# Altium integrated library TI Amplifiers and Linear Operational Amplifier High Speed.IntLib: 1100 symbols (part 23 of 44)
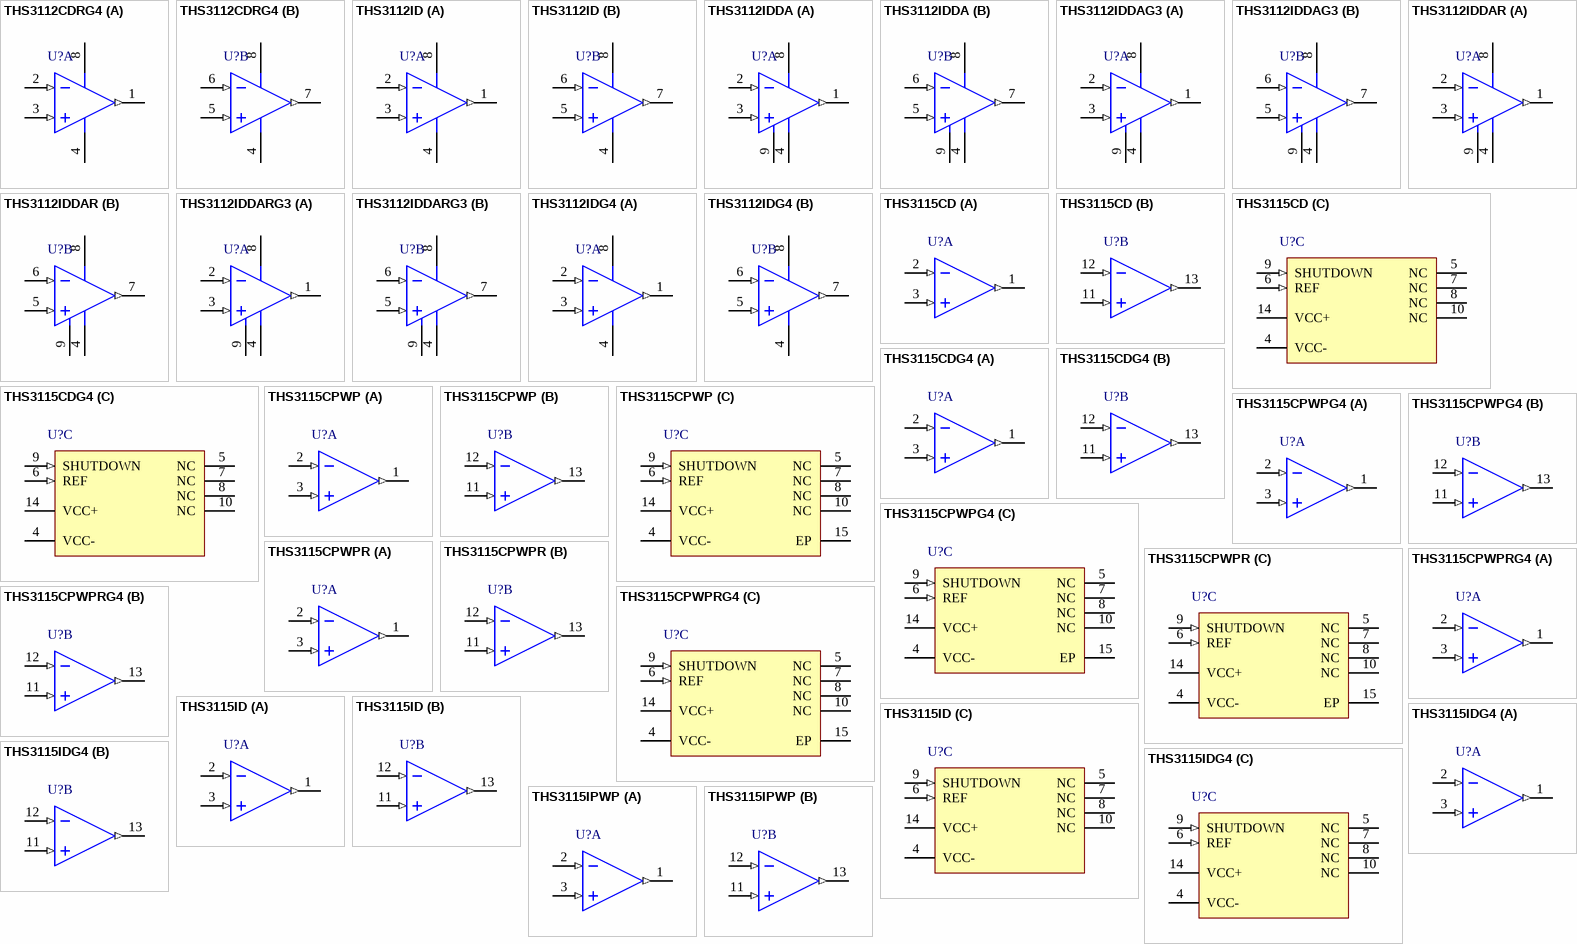
[diagram p73: symbols THS3112CDRG4 to THS3115IPWP]

## THS3112IDDARG3
designator U?
Dual, Low-Noise, High Output Current, 110 MHz Amplifier, 10 to 30 V, -40 to 85 degC, 8-pin SOP (DDA8), Green (RoHS & no Sb/Br); Manufacturer: Texas Instruments; PartNumber: THS3112IDDARG3; 2nd Harmonic(dBc): 62; 3rd Harmonic(dBc): 48; @ MHz: 10; Acl, min stable gain(V/V): 1; BW @ Acl(MHz): 110; Diff Gain(%): 0.01; Diff Phase(deg): 0.011; Iib(Max)(nA): 3000; Io(Typ)(mA): 270; Iq per channel(Max)(mA): 7.5; Number of Channels: 2; Settling Time (0.1%)(Typ)(ns): 50; Slew Rate(Typ)(V/us): 1300; Sub Family: High Output Current Amplifier (>=50mA), High Speed Amplifier (>=50MHz), High Supply Voltage Amplifier (>=30V); THD (Fc is 1 MHz)(Typ)(dB): -77; Vio(Max)(mV): 8; Vn at Flatband(Typ)(nV/rtHz): 2.8; Vs(Max)(V): 30; DatasheetVersion: SLOS385C; PackageVersion: 4202561/F, 12/2011; PackageReference: DDA8-3025X2335TP; PackageDescription: 8-Pin PowerPAD(TM) Plastic Small Outline, Body 4.9 x 3.9 mm, Pitch 1.27 mm; Supplier 1: Digi-Key; Supplier Part Number 1: THS3112IDDARG3-ND; Supplier 2: Mouser; Supplier Part Number 2: 595-THS3112IDDARG3; Eco-Plan: Green (RoHS & no Sb/Br); Vs(Min)(V): 10; Mounting Technology: Surface Mount; Code_JEDEC: MS-012; ComponentLink1Description: Manufacturer URL; ComponentLink1URL: http://www.ti.com/; ComponentLink2Description: Datasheet; ComponentLink2URL: http://www.ti.com/general/docs/lit/getliterature.tsp?genericPartNumber=THS3112&fileType=pdf; ComponentLink3Description: Package Specification; ComponentLink3URL: http://www.ti.com/litv/pdf/mpds092e
footprint TI-DDA8-3025X2335TP_N (SOP, 8-Leads, Body 4.9x3.9mm, Pitch 1.27mm, Thermal Pad 3.025x2.335mm, IPC Medium Density)
footprint TI-DDA8-3025X2335TP_L (SOP, 8-Leads, Body 4.9x3.9mm, Pitch 1.27mm, Thermal Pad 3.025x2.335mm, IPC High Density)
footprint TI-DDA8-3025X2335TP_M (SOP, 8-Leads, Body 4.9x3.9mm, Pitch 1.27mm, Thermal Pad 3.025x2.335mm, IPC Low Density)
pins on every part: 4 VCC- (power), 8 VCC+ (power), 9 EP
part A pins: 1 OUT1 (out), 2 IN1- (in), 3 IN1+ (in)
part B pins: 5 IN2+ (in), 6 IN2- (in), 7 OUT2 (out)

## THS3112IDG4
designator U?
Dual, Low-Noise, High Output Current, 110 MHz Amplifier, 10 to 30 V, -40 to 85 degC, 8-pin SOIC (D8), Green (RoHS & no Sb/Br); Manufacturer: Texas Instruments; PartNumber: THS3112IDG4; 2nd Harmonic(dBc): 62; 3rd Harmonic(dBc): 48; @ MHz: 10; Acl, min stable gain(V/V): 1; BW @ Acl(MHz): 110; Diff Gain(%): 0.01; Diff Phase(deg): 0.011; Iib(Max)(nA): 30000; Io(Typ)(mA): 270; Iq per channel(Max)(mA): 7.5; Number of Channels: 2; Settling Time (0.1%)(Typ)(ns): 63; Slew Rate(Typ)(V/us): 1300; Sub Family: High Output Current Amplifier (>=50mA), High Speed Amplifier (>=50MHz), High Supply Voltage Amplifier (>=30V); THD (Fc is 1 MHz)(Typ)(dB): -78; Vn at Flatband(Typ)(nV/rtHz): 2.2; Vs(Max)(V): 30; DatasheetVersion: SLOS385C; PackageVersion: 4040047-3/M, 06/2011; PackageReference: D8; PackageDescription: 8-Pin Plastic Small Outline, Body 4.9 x 3.9 mm, Pitch 1.27 mm; Supplier 1: Digi-Key; Supplier Part Number 1: THS3112IDG4-ND; Supplier 2: Mouser; Supplier Part Number 2: 595-THS3112IDG4; Eco-Plan: Green (RoHS & no Sb/Br); Vio(Max)(mV): 10; Vs(Min)(V): 10; Mounting Technology: Surface Mount; Code_JEDEC: MS-012; ComponentLink1Description: Manufacturer URL; ComponentLink1URL: http://www.ti.com/; ComponentLink2Description: Datasheet; ComponentLink2URL: http://www.ti.com/general/docs/lit/getliterature.tsp?genericPartNumber=THS3112&fileType=pdf; ComponentLink3Description: Package Specification; ComponentLink3URL: http://www.ti.com/litv/pdf/msoi002j
footprint TI-D8_N (SOIC, 8-Leads, Body 4.9x3.9mm, Pitch 1.27mm, IPC Medium Density)
footprint TI-D8_L (SOIC, 8-Leads, Body 4.9x3.9mm, Pitch 1.27mm, IPC High Density)
footprint TI-D8_M (SOIC, 8-Leads, Body 4.9x3.9mm, Pitch 1.27mm, IPC Low Density)
pins on every part: 4 VCC- (power), 8 VCC+ (power)
part A pins: 1 OUT1 (out), 2 IN1- (in), 3 IN1+ (in)
part B pins: 5 IN2+ (in), 6 IN2- (in), 7 OUT2 (out)

## THS3115CD
designator U?
Dual, Low-Noise, High Output Current, 110 MHz Amplifier with Shutdown, 10 to 30 V, 0 to 70 degC, 14-pin SOIC (D14), Green (RoHS & no Sb/Br); Manufacturer: Texas Instruments; PartNumber: THS3115CD; 2nd Harmonic(dBc): 62; 3rd Harmonic(dBc): 48; @ MHz: 10; Acl, min stable gain(V/V): 1; BW @ Acl(MHz): 110; Diff Gain(%): 0.01; Diff Phase(deg): 0.011; Iib(Max)(nA): 3000; Io(Typ)(mA): 270; Iq per channel(Max)(mA): 7.5; Number of Channels: 2; Settling Time (0.1%)(Typ)(ns): 50; Slew Rate(Typ)(V/us): 1300; Sub Family: High Output Current Amplifier (>=50mA), High Speed Amplifier (>=50MHz), High Supply Voltage Amplifier (>=30V); THD (Fc is 1 MHz)(Typ)(dB): -78; Vn at Flatband(Typ)(nV/rtHz): 2.2; Vs(Max)(V): 30; DatasheetVersion: SLOS385C; PackageVersion: 4040047-5/M, 06/2011; PackageReference: D14; PackageDescription: 14-Pin Plastic Small Outline, Body 8.65 x 3.9 mm, Pitch 1.27 mm; Supplier 1: Digi-Key; Supplier Part Number 1: 296-34199-5-ND; Supplier 2: Farnell; Supplier Part Number 2: 1755387; Supplier 3: Mouser; Supplier Part Number 3: 595-THS3115CD; Eco-Plan: Green (RoHS & no Sb/Br); Vio(Max)(mV): 10; Vs(Min)(V): 10; Mounting Technology: Surface Mount; Code_JEDEC: MS-012; ComponentLink1Description: Manufacturer URL; ComponentLink1URL: http://www.ti.com/; ComponentLink2Description: Datasheet; ComponentLink2URL: http://www.ti.com/general/docs/lit/getliterature.tsp?genericPartNumber=THS3115&fileType=pdf; ComponentLink3Description: Package Specification; ComponentLink3URL: http://www.ti.com/lit/ml/mpds177g/mpds177g.pdf
footprint TI-D14_N (SOIC, 14-Leads, Body 8.65x3.9mm, Pitch 1.27mm, IPC Medium Density)
footprint TI-D14_L (SOIC, 14-Leads, Body 8.65x3.9mm, Pitch 1.27mm, IPC High Density)
footprint TI-D14_M (SOIC, 14-Leads, Body 8.65x3.9mm, Pitch 1.27mm, IPC Low Density)
part A pins: 1 OUT1 (out), 2 IN1- (in), 3 IN1+ (in)
part B pins: 11 IN2+ (in), 12 IN2- (in), 13 OUT2 (out)
part C pins: 4 VCC- (power), 5 NC, 6 REF (in), 7 NC, 8 NC, 9 SHUTDOWN (in), 10 NC, 14 VCC+ (power)

## THS3115CDG4
designator U?
Dual, Low-Noise, High Output Current, 110 MHz Amplifier with Shutdown, 10 to 30 V, 0 to 70 degC, 14-pin SOIC (D14), Green (RoHS & no Sb/Br); Manufacturer: Texas Instruments; PartNumber: THS3115CDG4; 2nd Harmonic(dBc): 62; 3rd Harmonic(dBc): 48; @ MHz: 10; Acl, min stable gain(V/V): 1; BW @ Acl(MHz): 110; Diff Gain(%): 0.01; Diff Phase(deg): 0.011; Iib(Max)(nA): 3000; Io(Typ)(mA): 270; Iq per channel(Max)(mA): 7.5; Number of Channels: 2; Settling Time (0.1%)(Typ)(ns): 50; Slew Rate(Typ)(V/us): 1300; Sub Family: High Output Current Amplifier (>=50mA), High Speed Amplifier (>=50MHz), High Supply Voltage Amplifier (>=30V); THD (Fc is 1 MHz)(Typ)(dB): -78; Vn at Flatband(Typ)(nV/rtHz): 2.2; Vs(Max)(V): 30; DatasheetVersion: SLOS385C; PackageVersion: 4040047-5/M, 06/2011; PackageReference: D14; PackageDescription: 14-Pin Plastic Small Outline, Body 8.65 x 3.9 mm, Pitch 1.27 mm; Supplier 1: Digi-Key; Supplier Part Number 1: THS3115CDG4-ND; Supplier 2: Mouser; Supplier Part Number 2: 595-THS3115CDG4; Eco-Plan: Green (RoHS & no Sb/Br); Vio(Max)(mV): 10; Vs(Min)(V): 10; Mounting Technology: Surface Mount; Code_JEDEC: MS-012; ComponentLink1Description: Manufacturer URL; ComponentLink1URL: http://www.ti.com/; ComponentLink2Description: Datasheet; ComponentLink2URL: http://www.ti.com/general/docs/lit/getliterature.tsp?genericPartNumber=THS3115&fileType=pdf; ComponentLink3Description: Package Specification; ComponentLink3URL: http://www.ti.com/lit/ml/mpds177g/mpds177g.pdf
footprint TI-D14_N (SOIC, 14-Leads, Body 8.65x3.9mm, Pitch 1.27mm, IPC Medium Density)
footprint TI-D14_L (SOIC, 14-Leads, Body 8.65x3.9mm, Pitch 1.27mm, IPC High Density)
footprint TI-D14_M (SOIC, 14-Leads, Body 8.65x3.9mm, Pitch 1.27mm, IPC Low Density)
part A pins: 1 OUT1 (out), 2 IN1- (in), 3 IN1+ (in)
part B pins: 11 IN2+ (in), 12 IN2- (in), 13 OUT2 (out)
part C pins: 4 VCC- (power), 5 NC, 6 REF (in), 7 NC, 8 NC, 9 SHUTDOWN (in), 10 NC, 14 VCC+ (power)

## THS3115CPWP
designator U?
Dual, Low-Noise, High Output Current, 110 MHz Amplifier with Shutdown, 10 to 30 V, 0 to 70 degC, 14-pin SOP (PWP14), Green (RoHS & no Sb/Br); Manufacturer: Texas Instruments; PartNumber: THS3115CPWP; 2nd Harmonic(dBc): 62; 3rd Harmonic(dBc): 48; @ MHz: 10; Acl, min stable gain(V/V): 1; BW @ Acl(MHz): 110; Diff Gain(%): 0.01; Diff Phase(deg): 0.011; Iib(Max)(nA): 3000; Io(Typ)(mA): 270; Iq per channel(Max)(mA): 7.5; Number of Channels: 2; Settling Time (0.1%)(Typ)(ns): 50; Slew Rate(Typ)(V/us): 1300; Sub Family: High Output Current Amplifier (>=50mA), High Speed Amplifier (>=50MHz), High Supply Voltage Amplifier (>=30V); THD (Fc is 1 MHz)(Typ)(dB): -78; Vn at Flatband(Typ)(nV/rtHz): 2.2; Vs(Max)(V): 30; DatasheetVersion: SLOS385C; PackageVersion: 4073225-2/I, 05/2011; PackageReference: PWP14-1830X2055TP; PackageDescription: 14-Pin Plastic Small Outline, Body 4.4 x 5 mm, Pitch 0.65 mm; Supplier 1: Digi-Key; Supplier Part Number 1: THS3115CPWP-ND; Supplier 2: Mouser; Supplier Part Number 2: 595-THS3115CPWP; Eco-Plan: Green (RoHS & no Sb/Br); Vio(Max)(mV): 10; Vs(Min)(V): 10; Mounting Technology: Surface Mount; Code_JEDEC: MO-153; ComponentLink1Description: Manufacturer URL; ComponentLink1URL: http://www.ti.com/; ComponentLink2Description: Datasheet; ComponentLink2URL: http://www.ti.com/general/docs/lit/getliterature.tsp?genericPartNumber=THS3115&fileType=pdf; ComponentLink3Description: Package Specification; ComponentLink3URL: http://www.ti.com/litv/pdf/mpds373
footprint TI-PWP14-1830X2055TP_N (SOP, 14-Leads, Body 5x4.4mm, Pitch 0.65mm, Thermal Pad 1.830x2.055mm, IPC Medium Density)
footprint TI-PWP14-1830X2055TP_L (SOP, 14-Leads, Body 5x4.4mm, Pitch 0.65mm, Thermal Pad 1.830x2.055mm, IPC High Density)
footprint TI-PWP14-1830X2055TP_M (SOP, 14-Leads, Body 5x4.4mm, Pitch 0.65mm, Thermal Pad 1.830x2.055mm, IPC Low Density)
part A pins: 1 OUT1 (out), 2 IN1- (in), 3 IN1+ (in)
part B pins: 11 IN2+ (in), 12 IN2- (in), 13 OUT2 (out)
part C pins: 4 VCC- (power), 5 NC, 6 REF (in), 7 NC, 8 NC, 9 SHUTDOWN (in), 10 NC, 14 VCC+ (power), 15 EP

## THS3115CPWPG4
designator U?
Dual, Low-Noise, High Output Current, 110 MHz Amplifier with Shutdown, 10 to 30 V, 0 to 70 degC, 14-pin SOP (PWP14), Green (RoHS & no Sb/Br); Manufacturer: Texas Instruments; PartNumber: THS3115CPWPG4; 2nd Harmonic(dBc): 62; 3rd Harmonic(dBc): 48; @ MHz: 10; Acl, min stable gain(V/V): 1; BW @ Acl(MHz): 110; Diff Gain(%): 0.01; Diff Phase(deg): 0.011; Iib(Max)(nA): 3000; Io(Typ)(mA): 270; Iq per channel(Max)(mA): 7.5; Number of Channels: 2; Settling Time (0.1%)(Typ)(ns): 50; Slew Rate(Typ)(V/us): 1300; Sub Family: High Output Current Amplifier (>=50mA), High Speed Amplifier (>=50MHz), High Supply Voltage Amplifier (>=30V); THD (Fc is 1 MHz)(Typ)(dB): -78; Vn at Flatband(Typ)(nV/rtHz): 2.2; Vs(Max)(V): 30; DatasheetVersion: SLOS385C; PackageVersion: 4073225-2/I, 05/2011; PackageReference: PWP14-1830X2055TP; PackageDescription: 14-Pin Plastic Small Outline, Body 4.4 x 5 mm, Pitch 0.65 mm; Supplier 1: Digi-Key; Supplier Part Number 1: THS3115CPWPG4-ND; Supplier 2: Mouser; Supplier Part Number 2: 595-THS3115CPWPG4; Eco-Plan: Green (RoHS & no Sb/Br); Vio(Max)(mV): 10; Vs(Min)(V): 10; Mounting Technology: Surface Mount; Code_JEDEC: MO-153; ComponentLink1Description: Manufacturer URL; ComponentLink1URL: http://www.ti.com/; ComponentLink2Description: Datasheet; ComponentLink2URL: http://www.ti.com/general/docs/lit/getliterature.tsp?genericPartNumber=THS3115&fileType=pdf; ComponentLink3Description: Package Specification; ComponentLink3URL: http://www.ti.com/litv/pdf/mpds373
footprint TI-PWP14-1830X2055TP_N (SOP, 14-Leads, Body 5x4.4mm, Pitch 0.65mm, Thermal Pad 1.830x2.055mm, IPC Medium Density)
footprint TI-PWP14-1830X2055TP_L (SOP, 14-Leads, Body 5x4.4mm, Pitch 0.65mm, Thermal Pad 1.830x2.055mm, IPC High Density)
footprint TI-PWP14-1830X2055TP_M (SOP, 14-Leads, Body 5x4.4mm, Pitch 0.65mm, Thermal Pad 1.830x2.055mm, IPC Low Density)
part A pins: 1 OUT1 (out), 2 IN1- (in), 3 IN1+ (in)
part B pins: 11 IN2+ (in), 12 IN2- (in), 13 OUT2 (out)
part C pins: 4 VCC- (power), 5 NC, 6 REF (in), 7 NC, 8 NC, 9 SHUTDOWN (in), 10 NC, 14 VCC+ (power), 15 EP

## THS3115CPWPR
designator U?
Dual, Low-Noise, High Output Current, 110 MHz Amplifier with Shutdown, 10 to 30 V, 0 to 70 degC, 14-pin SOP (PWP14), Green (RoHS & no Sb/Br); Manufacturer: Texas Instruments; PartNumber: THS3115CPWPR; 2nd Harmonic(dBc): 62; 3rd Harmonic(dBc): 48; @ MHz: 10; Acl, min stable gain(V/V): 1; BW @ Acl(MHz): 110; Diff Gain(%): 0.01; Diff Phase(deg): 0.011; Iib(Max)(nA): 3000; Io(Typ)(mA): 270; Iq per channel(Max)(mA): 7.5; Number of Channels: 2; Settling Time (0.1%)(Typ)(ns): 50; Slew Rate(Typ)(V/us): 1300; Sub Family: High Output Current Amplifier (>=50mA), High Speed Amplifier (>=50MHz), High Supply Voltage Amplifier (>=30V); THD (Fc is 1 MHz)(Typ)(dB): -78; Vn at Flatband(Typ)(nV/rtHz): 2.2; Vs(Max)(V): 30; DatasheetVersion: SLOS385C; PackageVersion: 4073225-2/I, 05/2011; PackageReference: PWP14-1830X2055TP; PackageDescription: 14-Pin Plastic Small Outline, Body 4.4 x 5 mm, Pitch 0.65 mm; Supplier 1: Digi-Key; Supplier Part Number 1: THS3115CPWPR-ND; Supplier 2: Newark; Supplier Part Number 2: 76C6247; Supplier 3: Mouser; Supplier Part Number 3: 595-THS3115CPWPR; Eco-Plan: Green (RoHS & no Sb/Br); Vio(Max)(mV): 10; Vs(Min)(V): 10; Mounting Technology: Surface Mount; Code_JEDEC: MO-153; ComponentLink1Description: Manufacturer URL; ComponentLink1URL: http://www.ti.com/; ComponentLink2Description: Datasheet; ComponentLink2URL: http://www.ti.com/general/docs/lit/getliterature.tsp?genericPartNumber=THS3115&fileType=pdf; ComponentLink3Description: Package Specification; ComponentLink3URL: http://www.ti.com/litv/pdf/mpds373
footprint TI-PWP14-1830X2055TP_N (SOP, 14-Leads, Body 5x4.4mm, Pitch 0.65mm, Thermal Pad 1.830x2.055mm, IPC Medium Density)
footprint TI-PWP14-1830X2055TP_L (SOP, 14-Leads, Body 5x4.4mm, Pitch 0.65mm, Thermal Pad 1.830x2.055mm, IPC High Density)
footprint TI-PWP14-1830X2055TP_M (SOP, 14-Leads, Body 5x4.4mm, Pitch 0.65mm, Thermal Pad 1.830x2.055mm, IPC Low Density)
part A pins: 1 OUT1 (out), 2 IN1- (in), 3 IN1+ (in)
part B pins: 11 IN2+ (in), 12 IN2- (in), 13 OUT2 (out)
part C pins: 4 VCC- (power), 5 NC, 6 REF (in), 7 NC, 8 NC, 9 SHUTDOWN (in), 10 NC, 14 VCC+ (power), 15 EP

## THS3115CPWPRG4
designator U?
Dual, Low-Noise, High Output Current, 110 MHz Amplifier with Shutdown, 10 to 30 V, 0 to 70 degC, 14-pin SOP (PWP14), Green (RoHS & no Sb/Br); Manufacturer: Texas Instruments; PartNumber: THS3115CPWPRG4; 2nd Harmonic(dBc): 62; 3rd Harmonic(dBc): 48; @ MHz: 10; Acl, min stable gain(V/V): 1; BW @ Acl(MHz): 110; Diff Gain(%): 0.01; Diff Phase(deg): 0.011; Iib(Max)(nA): 3000; Io(Typ)(mA): 270; Iq per channel(Max)(mA): 7.5; Number of Channels: 2; Settling Time (0.1%)(Typ)(ns): 50; Slew Rate(Typ)(V/us): 1300; Sub Family: High Output Current Amplifier (>=50mA), High Speed Amplifier (>=50MHz), High Supply Voltage Amplifier (>=30V); THD (Fc is 1 MHz)(Typ)(dB): -78; Vn at Flatband(Typ)(nV/rtHz): 2.2; Vs(Max)(V): 30; DatasheetVersion: SLOS385C; PackageVersion: 4073225-2/I, 05/2011; PackageReference: PWP14-1830X2055TP; PackageDescription: 14-Pin Plastic Small Outline, Body 4.4 x 5 mm, Pitch 0.65 mm; Supplier 1: Digi-Key; Supplier Part Number 1: THS3115CPWPRG4-ND; Supplier 2: Mouser; Supplier Part Number 2: 595-THS3115CPWPRG4; Eco-Plan: Green (RoHS & no Sb/Br); Vio(Max)(mV): 10; Vs(Min)(V): 10; Mounting Technology: Surface Mount; Code_JEDEC: MO-153; ComponentLink1Description: Manufacturer URL; ComponentLink1URL: http://www.ti.com/; ComponentLink2Description: Datasheet; ComponentLink2URL: http://www.ti.com/general/docs/lit/getliterature.tsp?genericPartNumber=THS3115&fileType=pdf; ComponentLink3Description: Package Specification; ComponentLink3URL: http://www.ti.com/litv/pdf/mpds373
footprint TI-PWP14-1830X2055TP_N (SOP, 14-Leads, Body 5x4.4mm, Pitch 0.65mm, Thermal Pad 1.830x2.055mm, IPC Medium Density)
footprint TI-PWP14-1830X2055TP_L (SOP, 14-Leads, Body 5x4.4mm, Pitch 0.65mm, Thermal Pad 1.830x2.055mm, IPC High Density)
footprint TI-PWP14-1830X2055TP_M (SOP, 14-Leads, Body 5x4.4mm, Pitch 0.65mm, Thermal Pad 1.830x2.055mm, IPC Low Density)
part A pins: 1 OUT1 (out), 2 IN1- (in), 3 IN1+ (in)
part B pins: 11 IN2+ (in), 12 IN2- (in), 13 OUT2 (out)
part C pins: 4 VCC- (power), 5 NC, 6 REF (in), 7 NC, 8 NC, 9 SHUTDOWN (in), 10 NC, 14 VCC+ (power), 15 EP

## THS3115ID
designator U?
Dual, Low-Noise, High Output Current, 110 MHz Amplifier with Shutdown, 10 to 30 V, -40 to 85 degC, 14-pin SOIC (D14), Green (RoHS & no Sb/Br); Manufacturer: Texas Instruments; PartNumber: THS3115ID; 2nd Harmonic(dBc): 62; 3rd Harmonic(dBc): 48; @ MHz: 10; Acl, min stable gain(V/V): 1; BW @ Acl(MHz): 110; Diff Gain(%): 0.01; Diff Phase(deg): 0.011; Iib(Max)(nA): 3000; Io(Typ)(mA): 270; Iq per channel(Max)(mA): 7.5; Number of Channels: 2; Settling Time (0.1%)(Typ)(ns): 50; Slew Rate(Typ)(V/us): 1300; Sub Family: High Output Current Amplifier (>=50mA), High Speed Amplifier (>=50MHz), High Supply Voltage Amplifier (>=30V); THD (Fc is 1 MHz)(Typ)(dB): -77; Vio(Max)(mV): 8; Vn at Flatband(Typ)(nV/rtHz): 2.8; Vs(Max)(V): 30; DatasheetVersion: SLOS385C; PackageVersion: 4040047-5/M, 06/2011; PackageReference: D14; PackageDescription: 14-Pin Plastic Small Outline, Body 8.65 x 3.9 mm, Pitch 1.27 mm; Supplier 1: Digi-Key; Supplier Part Number 1: 296-13335-5-ND; Supplier 2: Mouser; Supplier Part Number 2: 595-THS3115ID; Eco-Plan: Green (RoHS & no Sb/Br); Vs(Min)(V): 10; Mounting Technology: Surface Mount; Code_JEDEC: MS-012; ComponentLink1Description: Manufacturer URL; ComponentLink1URL: http://www.ti.com/; ComponentLink2Description: Datasheet; ComponentLink2URL: http://www.ti.com/general/docs/lit/getliterature.tsp?genericPartNumber=THS3115&fileType=pdf; ComponentLink3Description: Package Specification; ComponentLink3URL: http://www.ti.com/lit/ml/mpds177g/mpds177g.pdf
footprint TI-D14_N (SOIC, 14-Leads, Body 8.65x3.9mm, Pitch 1.27mm, IPC Medium Density)
footprint TI-D14_L (SOIC, 14-Leads, Body 8.65x3.9mm, Pitch 1.27mm, IPC High Density)
footprint TI-D14_M (SOIC, 14-Leads, Body 8.65x3.9mm, Pitch 1.27mm, IPC Low Density)
part A pins: 1 OUT1 (out), 2 IN1- (in), 3 IN1+ (in)
part B pins: 11 IN2+ (in), 12 IN2- (in), 13 OUT2 (out)
part C pins: 4 VCC- (power), 5 NC, 6 REF (in), 7 NC, 8 NC, 9 SHUTDOWN (in), 10 NC, 14 VCC+ (power)

## THS3115IDG4
designator U?
Dual, Low-Noise, High Output Current, 110 MHz Amplifier with Shutdown, 10 to 30 V, -40 to 85 degC, 14-pin SOIC (D14), Green (RoHS & no Sb/Br); Manufacturer: Texas Instruments; PartNumber: THS3115IDG4; 2nd Harmonic(dBc): 62; 3rd Harmonic(dBc): 48; @ MHz: 10; Acl, min stable gain(V/V): 1; BW @ Acl(MHz): 110; Diff Gain(%): 0.01; Diff Phase(deg): 0.011; Iib(Max)(nA): 3000; Io(Typ)(mA): 270; Iq per channel(Max)(mA): 7.5; Number of Channels: 2; Settling Time (0.1%)(Typ)(ns): 50; Slew Rate(Typ)(V/us): 1300; Sub Family: High Output Current Amplifier (>=50mA), High Speed Amplifier (>=50MHz), High Supply Voltage Amplifier (>=30V); THD (Fc is 1 MHz)(Typ)(dB): -77; Vio(Max)(mV): 8; Vn at Flatband(Typ)(nV/rtHz): 2.8; Vs(Max)(V): 30; DatasheetVersion: SLOS385C; PackageVersion: 4040047-5/M, 06/2011; PackageReference: D14; PackageDescription: 14-Pin Plastic Small Outline, Body 8.65 x 3.9 mm, Pitch 1.27 mm; Supplier 1: Digi-Key; Supplier Part Number 1: THS3115IDG4-ND; Supplier 2: Mouser; Supplier Part Number 2: 595-THS3115IDG4; Eco-Plan: Green (RoHS & no Sb/Br); Vs(Min)(V): 10; Mounting Technology: Surface Mount; Code_JEDEC: MS-012; ComponentLink1Description: Manufacturer URL; ComponentLink1URL: http://www.ti.com/; ComponentLink2Description: Datasheet; ComponentLink2URL: http://www.ti.com/general/docs/lit/getliterature.tsp?genericPartNumber=THS3115&fileType=pdf; ComponentLink3Description: Package Specification; ComponentLink3URL: http://www.ti.com/lit/ml/mpds177g/mpds177g.pdf
footprint TI-D14_N (SOIC, 14-Leads, Body 8.65x3.9mm, Pitch 1.27mm, IPC Medium Density)
footprint TI-D14_L (SOIC, 14-Leads, Body 8.65x3.9mm, Pitch 1.27mm, IPC High Density)
footprint TI-D14_M (SOIC, 14-Leads, Body 8.65x3.9mm, Pitch 1.27mm, IPC Low Density)
part A pins: 1 OUT1 (out), 2 IN1- (in), 3 IN1+ (in)
part B pins: 11 IN2+ (in), 12 IN2- (in), 13 OUT2 (out)
part C pins: 4 VCC- (power), 5 NC, 6 REF (in), 7 NC, 8 NC, 9 SHUTDOWN (in), 10 NC, 14 VCC+ (power)

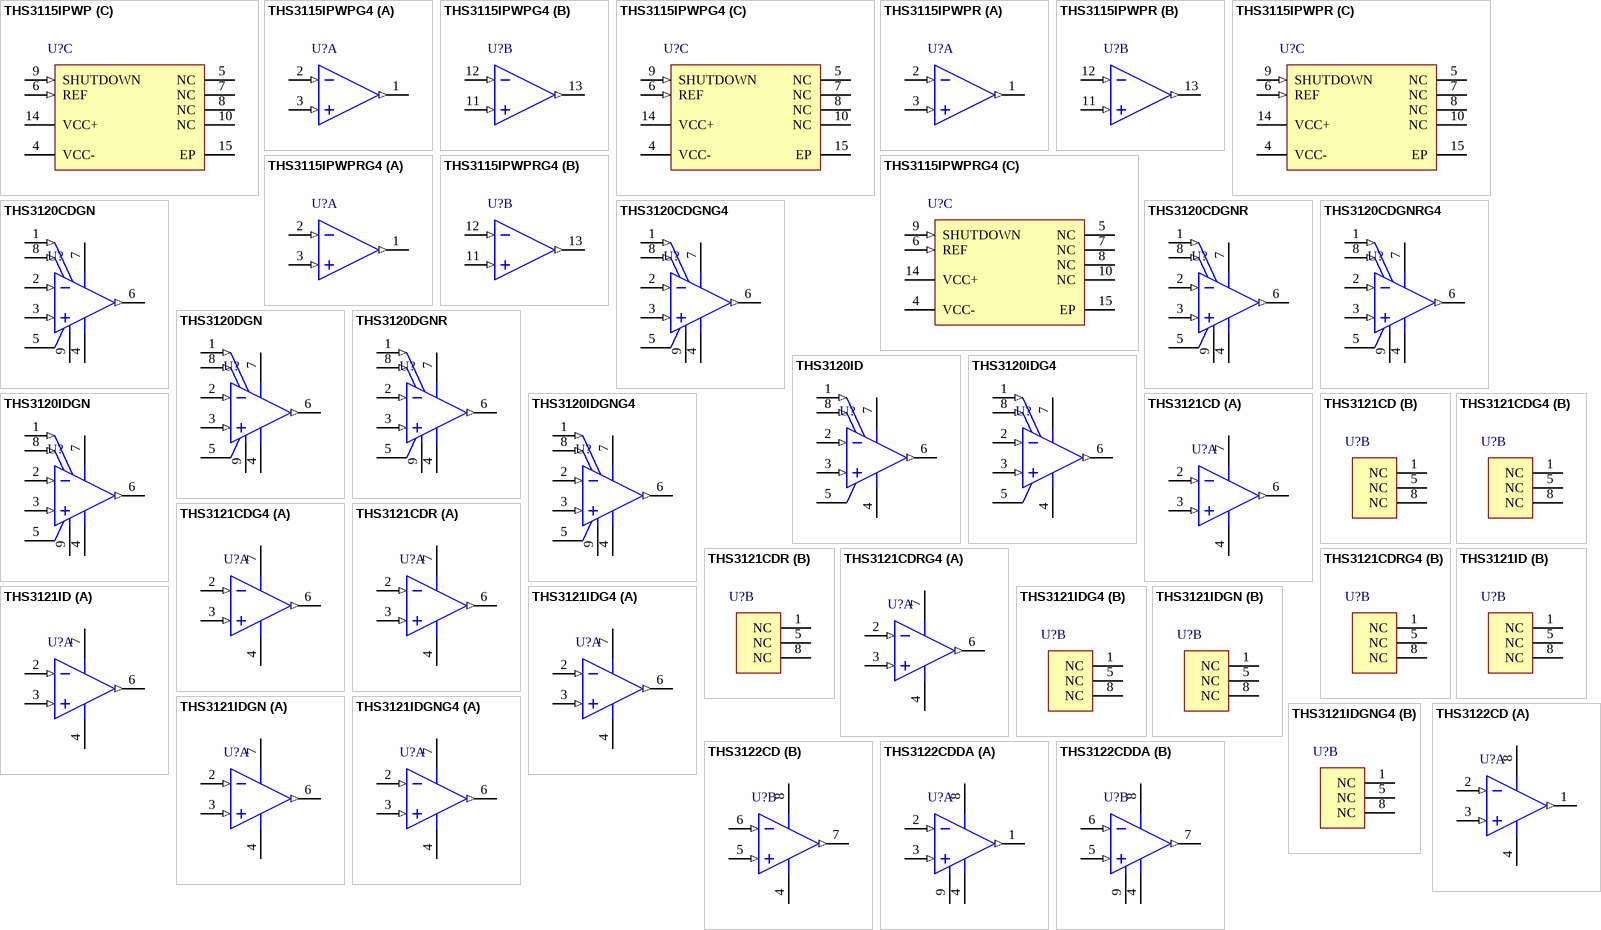
[diagram p28: symbols THS3115IPWP to THS3122CDDA]

## THS3115IPWP
designator U?
Dual, Low-Noise, High Output Current, 110 MHz Amplifier with Shutdown, 10 to 30 V, -40 to 85 degC, 14-pin SOP (PWP14), Green (RoHS & no Sb/Br); Manufacturer: Texas Instruments; PartNumber: THS3115IPWP; 2nd Harmonic(dBc): 62; 3rd Harmonic(dBc): 48; @ MHz: 10; Acl, min stable gain(V/V): 1; BW @ Acl(MHz): 110; Diff Gain(%): 0.01; Diff Phase(deg): 0.011; Iib(Max)(nA): 3000; Io(Typ)(mA): 270; Iq per channel(Max)(mA): 7.5; Number of Channels: 2; Settling Time (0.1%)(Typ)(ns): 50; Slew Rate(Typ)(V/us): 1300; Sub Family: High Output Current Amplifier (>=50mA), High Speed Amplifier (>=50MHz), High Supply Voltage Amplifier (>=30V); THD (Fc is 1 MHz)(Typ)(dB): -77; Vio(Max)(mV): 8; Vn at Flatband(Typ)(nV/rtHz): 2.8; Vs(Max)(V): 30; DatasheetVersion: SLOS385C; PackageVersion: 4073225-2/I, 05/2011; PackageReference: PWP14-1830X2055TP; PackageDescription: 14-Pin Plastic Small Outline, Body 4.4 x 5 mm, Pitch 0.65 mm; Supplier 1: Digi-Key; Supplier Part Number 1: 296-13336-5-ND; Supplier 2: Newark; Supplier Part Number 2: 76C6251; Supplier 3: Mouser; Supplier Part Number 3: 595-THS3115IPWP; Eco-Plan: Green (RoHS & no Sb/Br); Vs(Min)(V): 10; Mounting Technology: Surface Mount; Code_JEDEC: MO-153; ComponentLink1Description: Manufacturer URL; ComponentLink1URL: http://www.ti.com/; ComponentLink2Description: Datasheet; ComponentLink2URL: http://www.ti.com/general/docs/lit/getliterature.tsp?genericPartNumber=THS3115&fileType=pdf; ComponentLink3Description: Package Specification; ComponentLink3URL: http://www.ti.com/litv/pdf/mpds373
footprint TI-PWP14-1830X2055TP_N (SOP, 14-Leads, Body 5x4.4mm, Pitch 0.65mm, Thermal Pad 1.830x2.055mm, IPC Medium Density)
footprint TI-PWP14-1830X2055TP_L (SOP, 14-Leads, Body 5x4.4mm, Pitch 0.65mm, Thermal Pad 1.830x2.055mm, IPC High Density)
footprint TI-PWP14-1830X2055TP_M (SOP, 14-Leads, Body 5x4.4mm, Pitch 0.65mm, Thermal Pad 1.830x2.055mm, IPC Low Density)
part A pins: 1 OUT1 (out), 2 IN1- (in), 3 IN1+ (in)
part B pins: 11 IN2+ (in), 12 IN2- (in), 13 OUT2 (out)
part C pins: 4 VCC- (power), 5 NC, 6 REF (in), 7 NC, 8 NC, 9 SHUTDOWN (in), 10 NC, 14 VCC+ (power), 15 EP

## THS3115IPWPG4
designator U?
Dual, Low-Noise, High Output Current, 110 MHz Amplifier with Shutdown, 10 to 30 V, -40 to 85 degC, 14-pin SOP (PWP14), Green (RoHS & no Sb/Br); Manufacturer: Texas Instruments; PartNumber: THS3115IPWPG4; 2nd Harmonic(dBc): 62; 3rd Harmonic(dBc): 48; @ MHz: 10; Acl, min stable gain(V/V): 1; BW @ Acl(MHz): 110; Diff Gain(%): 0.01; Diff Phase(deg): 0.011; Iib(Max)(nA): 3000; Io(Typ)(mA): 270; Iq per channel(Max)(mA): 7.5; Number of Channels: 2; Settling Time (0.1%)(Typ)(ns): 50; Slew Rate(Typ)(V/us): 1300; Sub Family: High Output Current Amplifier (>=50mA), High Speed Amplifier (>=50MHz), High Supply Voltage Amplifier (>=30V); THD (Fc is 1 MHz)(Typ)(dB): -77; Vio(Max)(mV): 8; Vn at Flatband(Typ)(nV/rtHz): 2.8; Vs(Max)(V): 30; DatasheetVersion: SLOS385C; PackageVersion: 4073225-2/I, 05/2011; PackageReference: PWP14-1830X2055TP; PackageDescription: 14-Pin Plastic Small Outline, Body 4.4 x 5 mm, Pitch 0.65 mm; Supplier 1: Digi-Key; Supplier Part Number 1: THS3115IPWPG4-ND; Supplier 2: Mouser; Supplier Part Number 2: 595-THS3115IPWPG4; Eco-Plan: Green (RoHS & no Sb/Br); Vs(Min)(V): 10; Mounting Technology: Surface Mount; Code_JEDEC: MO-153; ComponentLink1Description: Manufacturer URL; ComponentLink1URL: http://www.ti.com/; ComponentLink2Description: Datasheet; ComponentLink2URL: http://www.ti.com/general/docs/lit/getliterature.tsp?genericPartNumber=THS3115&fileType=pdf; ComponentLink3Description: Package Specification; ComponentLink3URL: http://www.ti.com/litv/pdf/mpds373
footprint TI-PWP14-1830X2055TP_N (SOP, 14-Leads, Body 5x4.4mm, Pitch 0.65mm, Thermal Pad 1.830x2.055mm, IPC Medium Density)
footprint TI-PWP14-1830X2055TP_L (SOP, 14-Leads, Body 5x4.4mm, Pitch 0.65mm, Thermal Pad 1.830x2.055mm, IPC High Density)
footprint TI-PWP14-1830X2055TP_M (SOP, 14-Leads, Body 5x4.4mm, Pitch 0.65mm, Thermal Pad 1.830x2.055mm, IPC Low Density)
part A pins: 1 OUT1 (out), 2 IN1- (in), 3 IN1+ (in)
part B pins: 11 IN2+ (in), 12 IN2- (in), 13 OUT2 (out)
part C pins: 4 VCC- (power), 5 NC, 6 REF (in), 7 NC, 8 NC, 9 SHUTDOWN (in), 10 NC, 14 VCC+ (power), 15 EP

## THS3115IPWPR
designator U?
Dual, Low-Noise, High Output Current, 110 MHz Amplifier with Shutdown, 10 to 30 V, -40 to 85 degC, 14-pin SOP (PWP14), Green (RoHS & no Sb/Br); Manufacturer: Texas Instruments; PartNumber: THS3115IPWPR; 2nd Harmonic(dBc): 62; 3rd Harmonic(dBc): 48; @ MHz: 10; Acl, min stable gain(V/V): 1; BW @ Acl(MHz): 110; Diff Gain(%): 0.01; Diff Phase(deg): 0.011; Iib(Max)(nA): 3000; Io(Typ)(mA): 270; Iq per channel(Max)(mA): 7.5; Number of Channels: 2; Settling Time (0.1%)(Typ)(ns): 50; Slew Rate(Typ)(V/us): 1300; Sub Family: High Output Current Amplifier (>=50mA), High Speed Amplifier (>=50MHz), High Supply Voltage Amplifier (>=30V); THD (Fc is 1 MHz)(Typ)(dB): -77; Vio(Max)(mV): 8; Vn at Flatband(Typ)(nV/rtHz): 2.8; Vs(Max)(V): 30; DatasheetVersion: SLOS385C; PackageVersion: 4073225-2/I, 05/2011; PackageReference: PWP14-1830X2055TP; PackageDescription: 14-Pin Plastic Small Outline, Body 4.4 x 5 mm, Pitch 0.65 mm; Supplier 1: Digi-Key; Supplier Part Number 1: THS3115IPWPR-ND; Supplier 2: Mouser; Supplier Part Number 2: 595-THS3115IPWPR; Eco-Plan: Green (RoHS & no Sb/Br); Vs(Min)(V): 10; Mounting Technology: Surface Mount; Code_JEDEC: MO-153; ComponentLink1Description: Manufacturer URL; ComponentLink1URL: http://www.ti.com/; ComponentLink2Description: Datasheet; ComponentLink2URL: http://www.ti.com/general/docs/lit/getliterature.tsp?genericPartNumber=THS3115&fileType=pdf; ComponentLink3Description: Package Specification; ComponentLink3URL: http://www.ti.com/litv/pdf/mpds373
footprint TI-PWP14-1830X2055TP_N (SOP, 14-Leads, Body 5x4.4mm, Pitch 0.65mm, Thermal Pad 1.830x2.055mm, IPC Medium Density)
footprint TI-PWP14-1830X2055TP_L (SOP, 14-Leads, Body 5x4.4mm, Pitch 0.65mm, Thermal Pad 1.830x2.055mm, IPC High Density)
footprint TI-PWP14-1830X2055TP_M (SOP, 14-Leads, Body 5x4.4mm, Pitch 0.65mm, Thermal Pad 1.830x2.055mm, IPC Low Density)
part A pins: 1 OUT1 (out), 2 IN1- (in), 3 IN1+ (in)
part B pins: 11 IN2+ (in), 12 IN2- (in), 13 OUT2 (out)
part C pins: 4 VCC- (power), 5 NC, 6 REF (in), 7 NC, 8 NC, 9 SHUTDOWN (in), 10 NC, 14 VCC+ (power), 15 EP

## THS3115IPWPRG4
designator U?
Dual, Low-Noise, High Output Current, 110 MHz Amplifier with Shutdown, 10 to 30 V, -40 to 85 degC, 14-pin SOP (PWP14), Green (RoHS & no Sb/Br); Manufacturer: Texas Instruments; PartNumber: THS3115IPWPRG4; 2nd Harmonic(dBc): 62; 3rd Harmonic(dBc): 48; @ MHz: 10; Acl, min stable gain(V/V): 1; BW @ Acl(MHz): 110; Diff Gain(%): 0.01; Diff Phase(deg): 0.011; Iib(Max)(nA): 3000; Io(Typ)(mA): 270; Iq per channel(Max)(mA): 7.5; Number of Channels: 2; Settling Time (0.1%)(Typ)(ns): 50; Slew Rate(Typ)(V/us): 1300; Sub Family: High Output Current Amplifier (>=50mA), High Speed Amplifier (>=50MHz), High Supply Voltage Amplifier (>=30V); THD (Fc is 1 MHz)(Typ)(dB): -78; Vn at Flatband(Typ)(nV/rtHz): 2.2; Vs(Max)(V): 30; DatasheetVersion: SLOS385C; PackageVersion: 4073225-2/I, 05/2011; PackageReference: PWP14-1830X2055TP; PackageDescription: 14-Pin Plastic Small Outline, Body 4.4 x 5 mm, Pitch 0.65 mm; Supplier 1: Digi-Key; Supplier Part Number 1: THS3115IPWPRG4-ND; Supplier 2: Mouser; Supplier Part Number 2: 595-THS3115IPWPRG4; Eco-Plan: Green (RoHS & no Sb/Br); Vio(Max)(mV): 10; Vs(Min)(V): 10; Mounting Technology: Surface Mount; Code_JEDEC: MO-153; ComponentLink1Description: Manufacturer URL; ComponentLink1URL: http://www.ti.com/; ComponentLink2Description: Datasheet; ComponentLink2URL: http://www.ti.com/general/docs/lit/getliterature.tsp?genericPartNumber=THS3115&fileType=pdf; ComponentLink3Description: Package Specification; ComponentLink3URL: http://www.ti.com/litv/pdf/mpds373
footprint TI-PWP14-1830X2055TP_N (SOP, 14-Leads, Body 5x4.4mm, Pitch 0.65mm, Thermal Pad 1.830x2.055mm, IPC Medium Density)
footprint TI-PWP14-1830X2055TP_L (SOP, 14-Leads, Body 5x4.4mm, Pitch 0.65mm, Thermal Pad 1.830x2.055mm, IPC High Density)
footprint TI-PWP14-1830X2055TP_M (SOP, 14-Leads, Body 5x4.4mm, Pitch 0.65mm, Thermal Pad 1.830x2.055mm, IPC Low Density)
part A pins: 1 OUT1 (out), 2 IN1- (in), 3 IN1+ (in)
part B pins: 11 IN2+ (in), 12 IN2- (in), 13 OUT2 (out)
part C pins: 4 VCC- (power), 5 NC, 6 REF (in), 7 NC, 8 NC, 9 SHUTDOWN (in), 10 NC, 14 VCC+ (power), 15 EP

## THS3120CDGN
designator U?
Single, Low Noise, High Output Drive, 475 mA Current-Feedback Amplifier with Power-Down, 10 to 30 V, -40 to 85 degC, 8-pin SOP (DGN8), Green (RoHS & no Sb/Br); Manufacturer: Texas Instruments; PartNumber: THS3120CDGN; 2nd Harmonic(dBc): 51; 3rd Harmonic(dBc): 50; @ MHz: 10; Acl, min stable gain(V/V): 1; BW @ Acl(MHz): 130; Diff Gain(%): 0.007; Diff Phase(deg): 0.018; Iib(Max)(nA): 20000; Io(Typ)(mA): 475; Iq per channel(Max)(mA): 11; Slew Rate(Typ)(V/us): 1700; Sub Family: High Output Current Amplifier (>=50mA), High Speed Amplifier (>=50MHz), High Supply Voltage Amplifier (>=30V); THD (Fc is 1 MHz)(Typ)(dB): -78; Vio(Max)(mV): 8; Vn at Flatband(Typ)(nV/rtHz): 2.5; Vs(Max)(V): 30; DatasheetVersion: SLOS420E; PackageVersion: 4073271/F, 05/2011; PackageReference: DGN8-1760X1425TP; PackageDescription: 8-pin Plastic Small Outline, Body 3 x 3 mm, Pitch 0.65 mm; Supplier 1: Digi-Key; Supplier Part Number 1: THS3120CDGN-ND; Supplier 2: Mouser; Supplier Part Number 2: 595-THS3120CDGN; Eco-Plan: Green (RoHS & no Sb/Br); Number of Channels: 1; Settling Time (0.1%)(Typ)(ns): 11; Vs(Min)(V): 10; Mounting Technology: Surface Mount; Code_JEDEC: MO-187; ComponentLink1Description: Manufacturer URL; ComponentLink1URL: http://www.ti.com/; ComponentLink2Description: Datasheet; ComponentLink2URL: http://www.ti.com/general/docs/lit/getliterature.tsp?genericPartNumber=THS3120&fileType=pdf; ComponentLink3Description: Package Specification; ComponentLink3URL: http://www.ti.com/litv/pdf/mpds046e
footprint TI-DGN8-1760X1425TP_N (SOP, 8-Leads, Body 3x3mm, Pitch 0.65mm, Thermal Pad 1.76x1.425mm, IPC Medium Density)
footprint TI-DGN8-1760X1425TP_L (SOP, 8-Leads, Body 3x3mm, Pitch 0.65mm, Thermal Pad 1.76x1.425mm, IPC High Density)
footprint TI-DGN8-1760X1425TP_M (SOP, 8-Leads, Body 3x3mm, Pitch 0.65mm, Thermal Pad 1.76 x 1.425 mm, IPC Low Density)
pins: 1 REF (in), 2 VIN- (in), 3 VIN+ (in), 4 VS- (power), 5 NC, 6 VOUT (out), 7 VS+ (power), 8 PD (in), 9 EP

## THS3120CDGNG4
designator U?
Single, Low Noise, High Output Drive, 475 mA Current-Feedback Amplifier with Power-Down, 10 to 30 V, -40 to 85 degC, 8-pin SOP (DGN8), Green (RoHS & no Sb/Br); Manufacturer: Texas Instruments; PartNumber: THS3120CDGNG4; 2nd Harmonic(dBc): 51; 3rd Harmonic(dBc): 50; @ MHz: 10; Acl, min stable gain(V/V): 1; BW @ Acl(MHz): 130; Diff Gain(%): 0.007; Diff Phase(deg): 0.018; Iib(Max)(nA): 20000; Io(Typ)(mA): 475; Iq per channel(Max)(mA): 11; Slew Rate(Typ)(V/us): 1700; Sub Family: High Output Current Amplifier (>=50mA), High Speed Amplifier (>=50MHz), High Supply Voltage Amplifier (>=30V); THD (Fc is 1 MHz)(Typ)(dB): -78; Vio(Max)(mV): 8; Vn at Flatband(Typ)(nV/rtHz): 2.5; Vs(Max)(V): 30; DatasheetVersion: SLOS420E; PackageVersion: 4073271/F, 05/2011; PackageReference: DGN8-1760X1425TP; PackageDescription: 8-pin Plastic Small Outline, Body 3 x 3 mm, Pitch 0.65 mm; Supplier 1: Digi-Key; Supplier Part Number 1: THS3120CDGNG4-ND; Supplier 2: Mouser; Supplier Part Number 2: 595-THS3120CDGNG4; Eco-Plan: Green (RoHS & no Sb/Br); Number of Channels: 1; Settling Time (0.1%)(Typ)(ns): 11; Vs(Min)(V): 10; Mounting Technology: Surface Mount; Code_JEDEC: MO-187; ComponentLink1Description: Manufacturer URL; ComponentLink1URL: http://www.ti.com/; ComponentLink2Description: Datasheet; ComponentLink2URL: http://www.ti.com/general/docs/lit/getliterature.tsp?genericPartNumber=THS3120&fileType=pdf; ComponentLink3Description: Package Specification; ComponentLink3URL: http://www.ti.com/litv/pdf/mpds046e
footprint TI-DGN8-1760X1425TP_N (SOP, 8-Leads, Body 3x3mm, Pitch 0.65mm, Thermal Pad 1.76x1.425mm, IPC Medium Density)
footprint TI-DGN8-1760X1425TP_L (SOP, 8-Leads, Body 3x3mm, Pitch 0.65mm, Thermal Pad 1.76x1.425mm, IPC High Density)
footprint TI-DGN8-1760X1425TP_M (SOP, 8-Leads, Body 3x3mm, Pitch 0.65mm, Thermal Pad 1.76 x 1.425 mm, IPC Low Density)
pins: 1 REF (in), 2 VIN- (in), 3 VIN+ (in), 4 VS- (power), 5 NC, 6 VOUT (out), 7 VS+ (power), 8 PD (in), 9 EP

## THS3120CDGNR
designator U?
Single, Low Noise, High Output Drive, 475 mA Current-Feedback Amplifier with Power-Down, 10 to 30 V, -40 to 85 degC, 8-pin SOP (DGN8), Green (RoHS & no Sb/Br); Manufacturer: Texas Instruments; PartNumber: THS3120CDGNR; 2nd Harmonic(dBc): 51; 3rd Harmonic(dBc): 50; @ MHz: 10; Acl, min stable gain(V/V): 1; BW @ Acl(MHz): 130; Diff Gain(%): 0.007; Diff Phase(deg): 0.018; Iib(Max)(nA): 20000; Io(Typ)(mA): 475; Iq per channel(Max)(mA): 11; Slew Rate(Typ)(V/us): 1700; Sub Family: High Output Current Amplifier (>=50mA), High Speed Amplifier (>=50MHz), High Supply Voltage Amplifier (>=30V); THD (Fc is 1 MHz)(Typ)(dB): -78; Vio(Max)(mV): 8; Vn at Flatband(Typ)(nV/rtHz): 2.5; Vs(Max)(V): 30; DatasheetVersion: SLOS420E; PackageVersion: 4073271/F, 05/2011; PackageReference: DGN8-1760X1425TP; PackageDescription: 8-pin Plastic Small Outline, Body 3 x 3 mm, Pitch 0.65 mm; Supplier 1: Digi-Key; Supplier Part Number 1: THS3120CDGNR-ND; Supplier 2: Mouser; Supplier Part Number 2: 595-THS3120CDGNR; Eco-Plan: Green (RoHS & no Sb/Br); Number of Channels: 1; Settling Time (0.1%)(Typ)(ns): 11; Vs(Min)(V): 10; Mounting Technology: Surface Mount; Code_JEDEC: MO-187; ComponentLink1Description: Manufacturer URL; ComponentLink1URL: http://www.ti.com/; ComponentLink2Description: Datasheet; ComponentLink2URL: http://www.ti.com/general/docs/lit/getliterature.tsp?genericPartNumber=THS3120&fileType=pdf; ComponentLink3Description: Package Specification; ComponentLink3URL: http://www.ti.com/litv/pdf/mpds046e
footprint TI-DGN8-1760X1425TP_N (SOP, 8-Leads, Body 3x3mm, Pitch 0.65mm, Thermal Pad 1.76x1.425mm, IPC Medium Density)
footprint TI-DGN8-1760X1425TP_L (SOP, 8-Leads, Body 3x3mm, Pitch 0.65mm, Thermal Pad 1.76x1.425mm, IPC High Density)
footprint TI-DGN8-1760X1425TP_M (SOP, 8-Leads, Body 3x3mm, Pitch 0.65mm, Thermal Pad 1.76 x 1.425 mm, IPC Low Density)
pins: 1 REF (in), 2 VIN- (in), 3 VIN+ (in), 4 VS- (power), 5 NC, 6 VOUT (out), 7 VS+ (power), 8 PD (in), 9 EP

## THS3120CDGNRG4
designator U?
Single, Low Noise, High Output Drive, 475 mA Current-Feedback Amplifier with Power-Down, 10 to 30 V, -40 to 85 degC, 8-pin SOP (DGN8), Green (RoHS & no Sb/Br); Manufacturer: Texas Instruments; PartNumber: THS3120CDGNRG4; 2nd Harmonic(dBc): 51; 3rd Harmonic(dBc): 50; @ MHz: 10; Acl, min stable gain(V/V): 1; BW @ Acl(MHz): 130; Diff Gain(%): 0.007; Diff Phase(deg): 0.018; Iib(Max)(nA): 20000; Io(Typ)(mA): 475; Iq per channel(Max)(mA): 11; Slew Rate(Typ)(V/us): 1700; Sub Family: High Output Current Amplifier (>=50mA), High Speed Amplifier (>=50MHz), High Supply Voltage Amplifier (>=30V); THD (Fc is 1 MHz)(Typ)(dB): -78; Vio(Max)(mV): 8; Vn at Flatband(Typ)(nV/rtHz): 2.5; Vs(Max)(V): 30; DatasheetVersion: SLOS420E; PackageVersion: 4073271/F, 05/2011; PackageReference: DGN8-1760X1425TP; PackageDescription: 8-pin Plastic Small Outline, Body 3 x 3 mm, Pitch 0.65 mm; Supplier 1: Digi-Key; Supplier Part Number 1: THS3120CDGNRG4-ND; Supplier 2: Mouser; Supplier Part Number 2: 595-THS3120CDGNRG4; Eco-Plan: Green (RoHS & no Sb/Br); Number of Channels: 1; Settling Time (0.1%)(Typ)(ns): 11; Vs(Min)(V): 10; Mounting Technology: Surface Mount; Code_JEDEC: MO-187; ComponentLink1Description: Manufacturer URL; ComponentLink1URL: http://www.ti.com/; ComponentLink2Description: Datasheet; ComponentLink2URL: http://www.ti.com/general/docs/lit/getliterature.tsp?genericPartNumber=THS3120&fileType=pdf; ComponentLink3Description: Package Specification; ComponentLink3URL: http://www.ti.com/litv/pdf/mpds046e
footprint TI-DGN8-1760X1425TP_N (SOP, 8-Leads, Body 3x3mm, Pitch 0.65mm, Thermal Pad 1.76x1.425mm, IPC Medium Density)
footprint TI-DGN8-1760X1425TP_L (SOP, 8-Leads, Body 3x3mm, Pitch 0.65mm, Thermal Pad 1.76x1.425mm, IPC High Density)
footprint TI-DGN8-1760X1425TP_M (SOP, 8-Leads, Body 3x3mm, Pitch 0.65mm, Thermal Pad 1.76 x 1.425 mm, IPC Low Density)
pins: 1 REF (in), 2 VIN- (in), 3 VIN+ (in), 4 VS- (power), 5 NC, 6 VOUT (out), 7 VS+ (power), 8 PD (in), 9 EP

## THS3120DGN
designator U?
Single, Low Noise, High Output Drive, 475 mA Current-Feedback Amplifier with Power-Down, 10 to 30 V, -40 to 85 degC, 8-pin SOP (DGN8); Manufacturer: Texas Instruments; PartNumber: THS3120DGN; 2nd Harmonic(dBc): 51; 3rd Harmonic(dBc): 50; @ MHz: 10; Acl, min stable gain(V/V): 1; BW @ Acl(MHz): 130; Diff Gain(%): 0.007; Diff Phase(deg): 0.018; Iib(Max)(nA): 20000; Io(Typ)(mA): 475; Iq per channel(Max)(mA): 11; Slew Rate(Typ)(V/us): 1700; Sub Family: High Output Current Amplifier (>=50mA), High Speed Amplifier (>=50MHz), High Supply Voltage Amplifier (>=30V); THD (Fc is 1 MHz)(Typ)(dB): -78; Vio(Max)(mV): 8; Vn at Flatband(Typ)(nV/rtHz): 2.5; Vs(Max)(V): 30; DatasheetVersion: SLOS420E; PackageVersion: 4073271/F, 05/2011; PackageReference: DGN8-1760X1425TP; PackageDescription: 8-pin Plastic Small Outline, Body 3 x 3 mm, Pitch 0.65 mm; Supplier 1: Mouser; Supplier Part Number 1: N/A; Number of Channels: 1; Settling Time (0.1%)(Typ)(ns): 11; Vs(Min)(V): 10; Mounting Technology: Surface Mount; Code_JEDEC: MO-187; ComponentLink1Description: Manufacturer URL; ComponentLink1URL: http://www.ti.com/; ComponentLink2Description: Datasheet; ComponentLink2URL: http://www.ti.com/general/docs/lit/getliterature.tsp?genericPartNumber=THS3120&fileType=pdf; ComponentLink3Description: Package Specification; ComponentLink3URL: http://www.ti.com/litv/pdf/mpds046e
footprint TI-DGN8-1760X1425TP_N (SOP, 8-Leads, Body 3x3mm, Pitch 0.65mm, Thermal Pad 1.76x1.425mm, IPC Medium Density)
footprint TI-DGN8-1760X1425TP_L (SOP, 8-Leads, Body 3x3mm, Pitch 0.65mm, Thermal Pad 1.76x1.425mm, IPC High Density)
footprint TI-DGN8-1760X1425TP_M (SOP, 8-Leads, Body 3x3mm, Pitch 0.65mm, Thermal Pad 1.76 x 1.425 mm, IPC Low Density)
pins: 1 REF (in), 2 VIN- (in), 3 VIN+ (in), 4 VS- (power), 5 NC, 6 VOUT (out), 7 VS+ (power), 8 PD (in), 9 EP

## THS3120DGNR
designator U?
Single, Low Noise, High Output Drive, 475 mA Current-Feedback Amplifier with Power-Down, 10 to 30 V, -40 to 85 degC, 8-pin SOP (DGN8); Manufacturer: Texas Instruments; PartNumber: THS3120DGNR; 2nd Harmonic(dBc): 51; 3rd Harmonic(dBc): 50; @ MHz: 10; Acl, min stable gain(V/V): 1; BW @ Acl(MHz): 130; Diff Gain(%): 0.007; Diff Phase(deg): 0.018; Iib(Max)(nA): 20000; Io(Typ)(mA): 475; Iq per channel(Max)(mA): 11; Slew Rate(Typ)(V/us): 1700; Sub Family: High Output Current Amplifier (>=50mA), High Speed Amplifier (>=50MHz), High Supply Voltage Amplifier (>=30V); THD (Fc is 1 MHz)(Typ)(dB): -78; Vio(Max)(mV): 8; Vn at Flatband(Typ)(nV/rtHz): 2.5; Vs(Max)(V): 30; DatasheetVersion: SLOS420E; PackageVersion: 4073271/F, 05/2011; PackageReference: DGN8-1760X1425TP; PackageDescription: 8-pin Plastic Small Outline, Body 3 x 3 mm, Pitch 0.65 mm; Supplier 1: Mouser; Supplier Part Number 1: N/A; Number of Channels: 1; Settling Time (0.1%)(Typ)(ns): 11; Vs(Min)(V): 10; Mounting Technology: Surface Mount; Code_JEDEC: MO-187; ComponentLink1Description: Manufacturer URL; ComponentLink1URL: http://www.ti.com/; ComponentLink2Description: Datasheet; ComponentLink2URL: http://www.ti.com/general/docs/lit/getliterature.tsp?genericPartNumber=THS3120&fileType=pdf; ComponentLink3Description: Package Specification; ComponentLink3URL: http://www.ti.com/litv/pdf/mpds046e
footprint TI-DGN8-1760X1425TP_N (SOP, 8-Leads, Body 3x3mm, Pitch 0.65mm, Thermal Pad 1.76x1.425mm, IPC Medium Density)
footprint TI-DGN8-1760X1425TP_L (SOP, 8-Leads, Body 3x3mm, Pitch 0.65mm, Thermal Pad 1.76x1.425mm, IPC High Density)
footprint TI-DGN8-1760X1425TP_M (SOP, 8-Leads, Body 3x3mm, Pitch 0.65mm, Thermal Pad 1.76 x 1.425 mm, IPC Low Density)
pins: 1 REF (in), 2 VIN- (in), 3 VIN+ (in), 4 VS- (power), 5 NC, 6 VOUT (out), 7 VS+ (power), 8 PD (in), 9 EP

## THS3120ID
designator U?
Single, Low Noise, High Output Drive, 475 mA Current-Feedback Amplifier with Power-Down, 10 to 30 V, -40 to 85 degC, 8-pin SOIC (D8), Green (RoHS & no Sb/Br); Manufacturer: Texas Instruments; PartNumber: THS3120ID; 2nd Harmonic(dBc): 51; 3rd Harmonic(dBc): 50; @ MHz: 10; Acl, min stable gain(V/V): 1; BW @ Acl(MHz): 130; Diff Gain(%): 0.007; Diff Phase(deg): 0.018; Iib(Max)(nA): 20000; Io(Typ)(mA): 475; Iq per channel(Max)(mA): 11; Slew Rate(Typ)(V/us): 1700; Sub Family: High Output Current Amplifier (>=50mA), High Speed Amplifier (>=50MHz), High Supply Voltage Amplifier (>=30V); THD (Fc is 1 MHz)(Typ)(dB): -78; Vio(Max)(mV): 8; Vn at Flatband(Typ)(nV/rtHz): 2.5; Vs(Max)(V): 30; DatasheetVersion: SLOS420E; PackageVersion: 4040047-3/M, 06/2011; PackageReference: D8; PackageDescription: 8-Pin Plastic Small Outline, Body 4.9 x 3.9 mm, Pitch 1.27 mm; Supplier 1: Digi-Key; Supplier Part Number 1: 296-15772-5-ND; Supplier 2: Newark; Supplier Part Number 2: 87H2786; Supplier 3: Mouser; Supplier Part Number 3: 595-THS3120ID; Eco-Plan: Green (RoHS & no Sb/Br); Number of Channels: 1; Settling Time (0.1%)(Typ)(ns): 11; Vs(Min)(V): 10; Mounting Technology: Surface Mount; Code_JEDEC: MS-012; ComponentLink1Description: Manufacturer URL; ComponentLink1URL: http://www.ti.com/; ComponentLink2Description: Datasheet; ComponentLink2URL: http://www.ti.com/general/docs/lit/getliterature.tsp?genericPartNumber=THS3120&fileType=pdf; ComponentLink3Description: Package Specification; ComponentLink3URL: http://www.ti.com/litv/pdf/msoi002j
footprint TI-D8_N (SOIC, 8-Leads, Body 4.9x3.9mm, Pitch 1.27mm, IPC Medium Density)
footprint TI-D8_L (SOIC, 8-Leads, Body 4.9x3.9mm, Pitch 1.27mm, IPC High Density)
footprint TI-D8_M (SOIC, 8-Leads, Body 4.9x3.9mm, Pitch 1.27mm, IPC Low Density)
pins: 1 REF (in), 2 VIN- (in), 3 VIN+ (in), 4 VS- (power), 5 NC, 6 VOUT (out), 7 VS+ (power), 8 PD (in)

## THS3120IDG4
designator U?
Single, Low Noise, High Output Drive, 475 mA Current-Feedback Amplifier with Power-Down, 10 to 30 V, -40 to 85 degC, 8-pin SOIC (D8), Green (RoHS & no Sb/Br); Manufacturer: Texas Instruments; PartNumber: THS3120IDG4; 2nd Harmonic(dBc): 51; 3rd Harmonic(dBc): 50; @ MHz: 10; Acl, min stable gain(V/V): 1; BW @ Acl(MHz): 130; Diff Gain(%): 0.007; Diff Phase(deg): 0.018; Iib(Max)(nA): 20000; Io(Typ)(mA): 475; Iq per channel(Max)(mA): 11; Slew Rate(Typ)(V/us): 1700; Sub Family: High Output Current Amplifier (>=50mA), High Speed Amplifier (>=50MHz), High Supply Voltage Amplifier (>=30V); THD (Fc is 1 MHz)(Typ)(dB): -78; Vio(Max)(mV): 8; Vn at Flatband(Typ)(nV/rtHz): 2.5; Vs(Max)(V): 30; DatasheetVersion: SLOS420E; PackageVersion: 4040047-3/M, 06/2011; PackageReference: D8; PackageDescription: 8-Pin Plastic Small Outline, Body 4.9 x 3.9 mm, Pitch 1.27 mm; Supplier 1: Digi-Key; Supplier Part Number 1: THS3120IDG4-ND; Supplier 2: Mouser; Supplier Part Number 2: 595-THS3120IDG4; Eco-Plan: Green (RoHS & no Sb/Br); Number of Channels: 1; Settling Time (0.1%)(Typ)(ns): 11; Vs(Min)(V): 10; Mounting Technology: Surface Mount; Code_JEDEC: MS-012; ComponentLink1Description: Manufacturer URL; ComponentLink1URL: http://www.ti.com/; ComponentLink2Description: Datasheet; ComponentLink2URL: http://www.ti.com/general/docs/lit/getliterature.tsp?genericPartNumber=THS3120&fileType=pdf; ComponentLink3Description: Package Specification; ComponentLink3URL: http://www.ti.com/litv/pdf/msoi002j
footprint TI-D8_N (SOIC, 8-Leads, Body 4.9x3.9mm, Pitch 1.27mm, IPC Medium Density)
footprint TI-D8_L (SOIC, 8-Leads, Body 4.9x3.9mm, Pitch 1.27mm, IPC High Density)
footprint TI-D8_M (SOIC, 8-Leads, Body 4.9x3.9mm, Pitch 1.27mm, IPC Low Density)
pins: 1 REF (in), 2 VIN- (in), 3 VIN+ (in), 4 VS- (power), 5 NC, 6 VOUT (out), 7 VS+ (power), 8 PD (in)

## THS3120IDGN
designator U?
Single, Low Noise, High Output Drive, 475 mA Current-Feedback Amplifier with Power-Down, 10 to 30 V, -40 to 85 degC, 8-pin SOP (DGN8), Green (RoHS & no Sb/Br); Manufacturer: Texas Instruments; PartNumber: THS3120IDGN; 2nd Harmonic(dBc): 51; 3rd Harmonic(dBc): 50; @ MHz: 10; Acl, min stable gain(V/V): 1; BW @ Acl(MHz): 130; Diff Gain(%): 0.007; Diff Phase(deg): 0.018; Iib(Max)(nA): 20000; Io(Typ)(mA): 475; Iq per channel(Max)(mA): 11; Slew Rate(Typ)(V/us): 1700; Sub Family: High Output Current Amplifier (>=50mA), High Speed Amplifier (>=50MHz), High Supply Voltage Amplifier (>=30V); THD (Fc is 1 MHz)(Typ)(dB): -78; Vio(Max)(mV): 8; Vn at Flatband(Typ)(nV/rtHz): 2.5; Vs(Max)(V): 30; DatasheetVersion: SLOS420E; PackageVersion: 4073271/F, 05/2011; PackageReference: DGN8-1760X1425TP; PackageDescription: 8-pin Plastic Small Outline, Body 3 x 3 mm, Pitch 0.65 mm; Supplier 1: Digi-Key; Supplier Part Number 1: 296-15773-5-ND; Supplier 2: Newark; Supplier Part Number 2: 87H2787; Supplier 3: Mouser; Supplier Part Number 3: 595-THS3120IDGN; Eco-Plan: Green (RoHS & no Sb/Br); Number of Channels: 1; Settling Time (0.1%)(Typ)(ns): 11; Vs(Min)(V): 10; Mounting Technology: Surface Mount; Code_JEDEC: MO-187; ComponentLink1Description: Manufacturer URL; ComponentLink1URL: http://www.ti.com/; ComponentLink2Description: Datasheet; ComponentLink2URL: http://www.ti.com/general/docs/lit/getliterature.tsp?genericPartNumber=THS3120&fileType=pdf; ComponentLink3Description: Package Specification; ComponentLink3URL: http://www.ti.com/litv/pdf/mpds046e
footprint TI-DGN8-1760X1425TP_N (SOP, 8-Leads, Body 3x3mm, Pitch 0.65mm, Thermal Pad 1.76x1.425mm, IPC Medium Density)
footprint TI-DGN8-1760X1425TP_L (SOP, 8-Leads, Body 3x3mm, Pitch 0.65mm, Thermal Pad 1.76x1.425mm, IPC High Density)
footprint TI-DGN8-1760X1425TP_M (SOP, 8-Leads, Body 3x3mm, Pitch 0.65mm, Thermal Pad 1.76 x 1.425 mm, IPC Low Density)
pins: 1 REF (in), 2 VIN- (in), 3 VIN+ (in), 4 VS- (power), 5 NC, 6 VOUT (out), 7 VS+ (power), 8 PD (in), 9 EP

## THS3120IDGNG4
designator U?
Single, Low Noise, High Output Drive, 475 mA Current-Feedback Amplifier with Power-down, 10 to 30 V, -40 to 85 degC, 8-pin SOP (DGN8), Green (RoHS & no Sb/Br); Manufacturer: Texas Instruments; PartNumber: THS3120IDGNG4; 2nd Harmonic(dBc): 51; 3rd Harmonic(dBc): 50; @ MHz: 10; Acl, min stable gain(V/V): 1; BW @ Acl(MHz): 130; Diff Gain(%): 0.007; Diff Phase(deg): 0.018; Iib(Max)(nA): 20000; Io(Typ)(mA): 475; Iq per channel(Max)(mA): 11; Slew Rate(Typ)(V/us): 1700; Sub Family: High Output Current Amplifier (>=50mA), High Speed Amplifier (>=50MHz), High Supply Voltage Amplifier (>=30V); THD (Fc is 1 MHz)(Typ)(dB): -78; Vio(Max)(mV): 8; Vn at Flatband(Typ)(nV/rtHz): 2.5; Vs(Max)(V): 30; DatasheetVersion: SLOS420E; PackageVersion: 4073271/F, 05/2011; PackageReference: DGN8-1760X1425TP; PackageDescription: 8-pin Plastic Small Outline, Body 3 x 3 mm, Pitch 0.65 mm; Supplier 1: Digi-Key; Supplier Part Number 1: THS3120IDGNG4-ND; Supplier 2: Mouser; Supplier Part Number 2: 595-THS3120IDGNG4; Eco-Plan: Green (RoHS & no Sb/Br); Number of Channels: 1; Settling Time (0.1%)(Typ)(ns): 11; Vs(Min)(V): 10; Mounting Technology: Surface Mount; Code_JEDEC: MO-187; ComponentLink1Description: Manufacturer URL; ComponentLink1URL: http://www.ti.com/; ComponentLink2Description: Datasheet; ComponentLink2URL: http://www.ti.com/general/docs/lit/getliterature.tsp?genericPartNumber=THS3120&fileType=pdf; ComponentLink3Description: Package Specification; ComponentLink3URL: http://www.ti.com/litv/pdf/mpds046e
footprint TI-DGN8-1760X1425TP_N (SOP, 8-Leads, Body 3x3mm, Pitch 0.65mm, Thermal Pad 1.76x1.425mm, IPC Medium Density)
footprint TI-DGN8-1760X1425TP_L (SOP, 8-Leads, Body 3x3mm, Pitch 0.65mm, Thermal Pad 1.76x1.425mm, IPC High Density)
footprint TI-DGN8-1760X1425TP_M (SOP, 8-Leads, Body 3x3mm, Pitch 0.65mm, Thermal Pad 1.76 x 1.425 mm, IPC Low Density)
pins: 1 REF (in), 2 VIN- (in), 3 VIN+ (in), 4 VS- (power), 5 NC, 6 VOUT (out), 7 VS+ (power), 8 PD (in), 9 EP